# Altium footprint library BUTTON.PcbLib: 13 footprints
Each footprint in its own frame and in the unit in brackets; x right, y up, seen from the top. Pads: shape width x height; smd on the part's side, far side on the other; paste and mask are expansions set on the pad; w line width, h text height; cw(c..) or ccw(c..) is an arc to the next point about the centre after c.
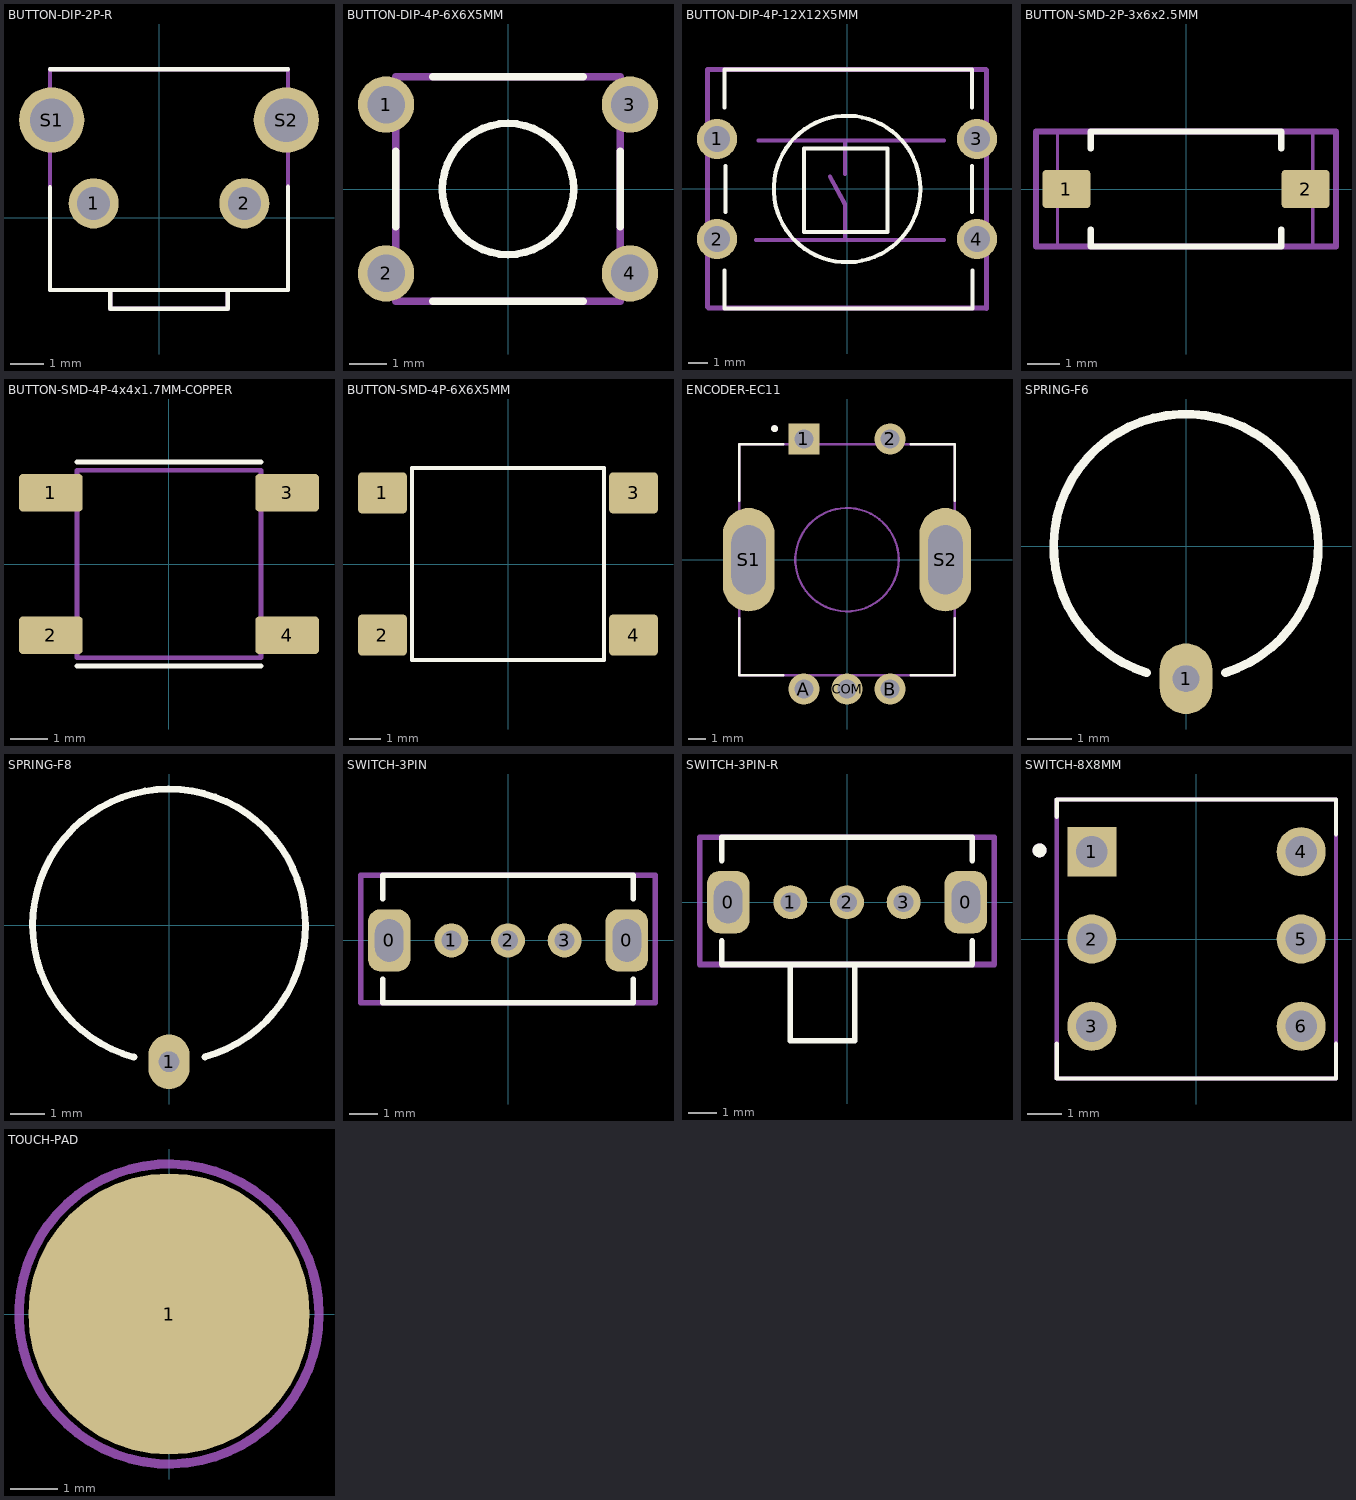
[diagram p0: the footprints below, top view; thin cyan lines are the x and y axes]

## BUTTON-DIP-2P-R [mm]
pads (4):
  round 1.498 hole 0.99: 1(-1.965,0.43) 2(2.535,0.43)
  round 1.95 hole 1.3: S1(-3.22,2.92) S2(3.79,2.92)
Top Overlay:
  lines w0.127: -3.27,0.915 -3.27,-2.16 -1.47,-2.16 ; -3.27,4.44 3.84,4.44 ; 3.84,0.93 3.84,-2.16 2.04,-2.16 ; -1.47,-2.16 2.04,-2.16 ; -1.47,-2.16 -1.47,-2.72 2.04,-2.72 2.04,-2.16
Mechanical 13:
  lines w0.127: -1.47,-2.16 2.04,-2.16 ; -1.47,-2.16 -3.27,-2.16 -3.27,4.44 3.84,4.44 3.84,-2.16 2.04,-2.16 ; -1.47,-2.16 -1.47,-2.72 2.04,-2.72 2.04,-2.16
3D body "NutNhan90Do.step": height 7, standoff -3.5, extent -3.867,-2.489 4.527,4.561

## BUTTON-DIP-4P-6X6X5MM [mm]
pads (4):
  round 1.5 hole 1: 1(-3.25,2.25) 2(-3.25,-2.25) 3(3.25,2.25) 4(3.25,-2.25)
Top Overlay:
  circle w0.2: c0,0 r1.75
  lines w0.2: -3,-1 -3,1 ; -2,-3 2,-3 ; -2,3 2,3 ; 3,-1 3,1
Mechanical 13:
  circle w0.2: c-3.25,2.25 r0.2
  circle w0.127: c0,0 r1.75
  lines w0.2: -2.995,-2.995 2.995,-2.995 2.995,2.995 -2.995,2.995 -2.995,-2.995
3D body "Tactile Button v1.step": height 4.52, standoff -2.32, extent -3.81,-3.048 3.81,3.048

## BUTTON-DIP-4P-12X12X5MM [mm]
pads (4):
  round 2 hole 1.3: 1(-6.5,2.5) 2(-6.5,-2.5) 3(6.5,2.5) 4(6.5,-2.5)
Top Overlay:
  circle w0.2: c0,0 r3.663
  lines w0.2: -6.121,-4.064 -6.121,-5.969 6.274,-5.969 6.274,-4.064 ; -6.121,4.064 -6.121,5.969 6.248,5.969 6.248,4.064 ; -6.069,-1.143 -6.069,1.143 ; 6.25,-1.143 6.25,1.143 ; -2.159,-2.159 -2.159,2.032 2.032,2.032 2.032,-2.159 -2.159,-2.159
Mechanical 13:
  lines w0.2: -4.545,-2.54 4.853,-2.54 ; -4.418,2.413 4.853,2.413 ; -0.862,0.635 -0.1,-0.762 -0.1,-2.413 ; -0.1,0.762 -0.1,2.413
  lines w0.254: -6.985,-5.893 -6.985,5.969 6.96,5.969 6.985,5.944 6.985,-5.969 6.96,-5.944 -6.934,-5.944 -6.985,-5.893
3D body "User Library-Button 12x12x7_3.step": height 7.1, standoff -2.6, extent -6.925,-5.95 6.925,5.95

## BUTTON-SMD-2P-3x6x2.5MM [mm]
pads (2):
  rrect20% 1.5x1.2 smd: 1(-3.746,0) 2(3.746,0)
Top Overlay:
  lines w0.2: -2.984,-1.27 -2.984,-1.803 2.984,-1.803 2.984,-1.27 ; -2.984,1.27 -2.984,1.803 2.984,1.803 2.984,1.27
Mechanical 1:
  lines w0.1: -4.026,-1.8 -4.026,1.8 3.974,1.8 3.974,-1.8 -4.026,-1.8
Mechanical 13:
  lines w0.2: -4.7,-1.8 4.7,-1.8 4.7,1.8 -4.7,1.8 -4.7,-1.8
3D body "Tactile Switch SMD 6x3.6mm H=2.5mm RS-282G05A3-SM RT.stp": height 2.5, standoff -0.02, extent -4.026,-1.8 3.974,1.8

## BUTTON-SMD-4P-4x4x1.7MM-COPPER [mm]
pads (4):
  rrect20% 1.7x1 smd: 1(-3.15,1.9) 2(-3.15,-1.9) 3(3.15,1.9) 4(3.15,-1.9)
Top Overlay:
  lines w0.127: -2.45,-2.72 2.45,-2.72 ; -2.45,2.72 2.45,2.72
Mechanical 13:
  lines w0.127: -2.45,-2.5 -2.45,2.5 2.45,2.5 2.45,-2.5 -2.45,-2.5
3D body "PTS525SK15.stp": height 1.5, standoff 0, extent -3.2,-2.6 3.2,2.6

## BUTTON-SMD-4P-6X6X5MM [mm]
pads (4):
  rrect20% 1.55x1.3 smd: 1(-3.975,2.25) 2(-3.975,-2.25) 3(3.975,2.25) 4(3.975,-2.25)
Top Overlay:
  lines w0.127: -3.036,-3.036 3.036,-3.036 3.036,3.036 -3.036,3.036 -3.036,-3.036
Mechanical 13:
  lines w0.127: -3.036,-3.036 3.036,-3.036 3.036,3.036 -3.036,3.036 -3.036,-3.036
3D body "4301x20508x6.stp": height 4.99, standoff -0.01, extent -4.5,-3.1 4.5,3.1

## ENCODER-EC11 [mm]
pads (7):
  rect 1.8x1.8 hole 1.1: 1(-2.5,7)
  round 1.8 hole 1.1: 2(2.5,7) A(-2.5,-7.5) B(2.5,-7.5) COM(0,-7.5)
  oval 3x6 hole 2 slot 4 at 90 deg: S1(-5.7,0) S2(5.7,0)
Top Overlay:
  circle w0.2: c-4.2,7.6 r0.1
  lines w0.127: -6.25,-3.4 -6.25,-6.7 -3.7,-6.7 ; -6.25,3.4 -6.25,6.7 -3.7,6.7 ; 3.7,-6.7 6.25,-6.7 6.25,-3.4 ; 3.7,6.7 6.25,6.7 6.25,3.4
Mechanical 13:
  circle w0.2: c-4.2,7.6 r0.1
  circle w0.127: c0,0 r3
  lines w0.127: -6.25,-6.7 -6.25,6.7 6.25,6.7 6.25,-6.7 -6.25,-6.7
3D body "EC11 Rotary Encoder Dode Switch-15mm .STEP": height 19.5, standoff -3.65, extent -5.857,-7.725 5.856,7.225

## SPRING-F6 [mm]
pads (1):
  oval 1.2x1.6 hole 0.6: 1(0,-3)
Top Overlay:
  lines w0.2: -0.889,-2.865 cw(c0,0) 0.889,-2.865
3D body "SPRING-F6.x_t": height 9.6, standoff 0, extent -3.299,-3.299 3.299,3.299
3D body: height 0.6, standoff -2, extent -0.3,-3.3 0.3,-2.7

## SPRING-F8 [mm]
pads (1):
  oval 1.2x1.6 hole 0.6: 1(0,-4)
Top Overlay:
  lines w0.2: -1.031,-3.865 cw(c0,0) 1.052,-3.859
3D body "ButtonSpring.SLDPRT": height 8.77, standoff 0.1, extent -4.048,-4.046 4.048,4.048

## SWITCH-3PIN [mm]
pads (5):
  rrect60% 1.5x2.2 hole 1.5 slot 1 at 0 deg: 0(-4.2,0) 0(4.2,0)
  round 1.2 hole 0.7: 1(-2,0) 2(0,0) 3(2,0)
Top Overlay:
  lines w0.2: -4.42,-1.372 -4.42,-2.2 4.42,-2.2 4.42,-1.372 ; -4.42,1.472 -4.42,2.3 4.42,2.3 4.42,1.472
Mechanical 13:
  lines w0.2: -5.2,-2.2 -5.2,2.3 5.2,2.3 5.2,-2.2 -5.2,-2.2
3D body "EG1249.step": height 12.5, standoff -5.01, extent -4.961,-2.066 4.961,2.134

## SWITCH-3PIN-R [mm]
pads (5):
  rrect60% 1.5x2.2 hole 1.5 slot 1 at 0 deg: 0(-4.2,0) 0(4.2,0)
  round 1.2 hole 0.7: 1(-2,0) 2(0,0) 3(2,0)
Top Overlay:
  lines w0.2: -4.42,-1.372 -4.42,-2.2 4.42,-2.2 4.42,-1.372 ; -4.42,1.472 -4.42,2.3 4.42,2.3 4.42,1.472 ; -2.007,-2.286 -2.007,-4.902 0.279,-4.902 0.279,-2.286
Mechanical 13:
  lines w0.2: -5.2,-2.2 -5.2,2.3 5.2,2.3 5.2,-2.2 -5.2,-2.2
3D body "SWITCH 3 PIN RIGHT.step": height 5.2, standoff -2.3, extent -4.3,-4.64 4.3,2.3

## SWITCH-8X8MM [mm]
pads (6):
  rect 1.408x1.408 hole 0.9: 1(-3,2.5)
  round 1.408 hole 0.9: 2(-3,0) 3(-3,-2.5) 4(3,2.5) 5(3,0) 6(3,-2.5)
Top Overlay:
  circle w0.2: c-4.5,2.54 r0.1
  lines w0.127: -4,-3 -4,-4 4,-4 4,-3 ; -4,3.5 -4,4 4,4 4,3
Mechanical 13:
  circle w0.2: c-4.5,2.54 r0.1
  lines w0.127: -4,-4 -4,4 4,4 4,-4 -4,-4
3D body "Push Switch_8x8_6pin_with Lock.stp": height 13.6, standoff -3.5, extent -4,-4 4,4

## TOUCH-PAD [mm]
pads (1):
  round 6 smd mask+0.102: 1(0,0)
Mechanical 13:
  circle w0.2: c0,0 r3.2